# EAGLE library part S6BP203A8FST2B000 (library v-reg-custom)
Conv DC-DC 2.5V to 42V Synchronous Step Down Single-Out 3.3V 2.4A Automotive 16-Pin TSSOP EP T/R Source: Datasheet <https://www.infineon.com/dgdl/Infineon-S6BP203A_ASSP_42V_2.4A_Synchronous_Buck-boost_DC_DC_Converter_IC_Datasheet-AdditionalTechnicalInformation-v06_00-EN.pdf?fileId=8ac78c8c7d0d8da4017d0ed705f557f9&utm_source=cypress&utm_medium=referral&utm_campaign=2021>
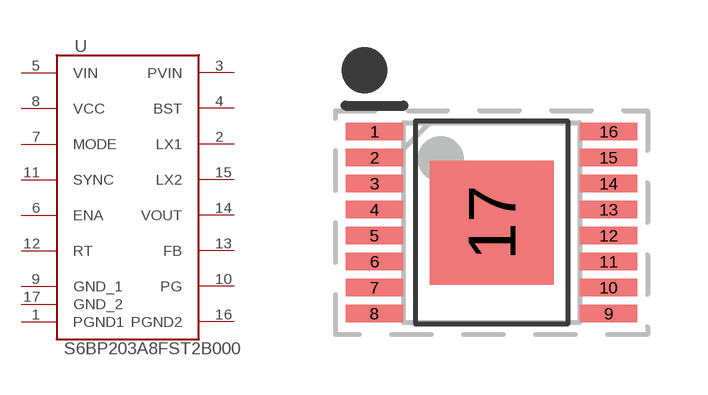
[diagram p2: symbol with the pads of SOP65P640X110-17N; footprint SOP65P640X110-17N]

Designator prefix U

## S6BP203A8FST2B000 (ARROW_PN: S6BP203A8FST2B000; AUTOMOTIVE: AEC-Q100 Grade 1; DESCRIPTION: Conv DC-DC 2.5V to 42V Synchronous Step Down Single-Out 3.3V 2.4A Automotive 16-Pin TSSOP EP T/R; FREQUENCY: 200 KHz to 2.1 MHz; HEIGHT: 1.1mm; I_MAX: 2.4A; MFG: Cypress Semiconductor / Nexperia; MPN: S6BP203A8FST2B000; OPERATING_TEMP: -40 to +125C; PACKAGE: PG-TSSOP-16; TOPOLOGY: Buck-Boost DC/DC; VALUE: S6BP203 3.3V; V_IN: 2.5V to 42V; V_OUT: 3.3V)  [SOP65P640X110-17N]
1  PGND1
2  LX1
3  PVIN
4  BST
5  VIN
6  ENA
7  MODE
8  VCC
9  GND_1
10  PG
11  SYNC
12  RT
13  FB
14  VOUT
15  LX2
16  PGND2
17  GND_2

## Footprint SOP65P640X110-17N (pad centres in mm)
16-pin TSSOP (4.40 mm Body) Package Outline, 51-85091
smd 1.448 x 0.432: 1 -2.925,2.275; 2 -2.925,1.625; 3 -2.925,0.975; 4 -2.925,0.325; 5 -2.925,-0.325; 6 -2.925,-0.975; 7 -2.925,-1.625; 8 -2.925,-2.275; 9 2.925,-2.275; 10 2.925,-1.625; 11 2.925,-0.975; 12 2.925,-0.325; 13 2.925,0.325; 14 2.925,0.975; 15 2.925,1.625; 16 2.925,2.275
smd 3.1 x 3.1: 17 0,0